# EAGLE library part SAMACSYS_PARTS_MD-80SGK (library PCEMouse_rev_D)
Circular DIN Connectors mini-DIN, 8P jack, rt, through hole, full shield Source: Datasheet <https://www.cui.com/product/resource/md-sgk-series.pdf>
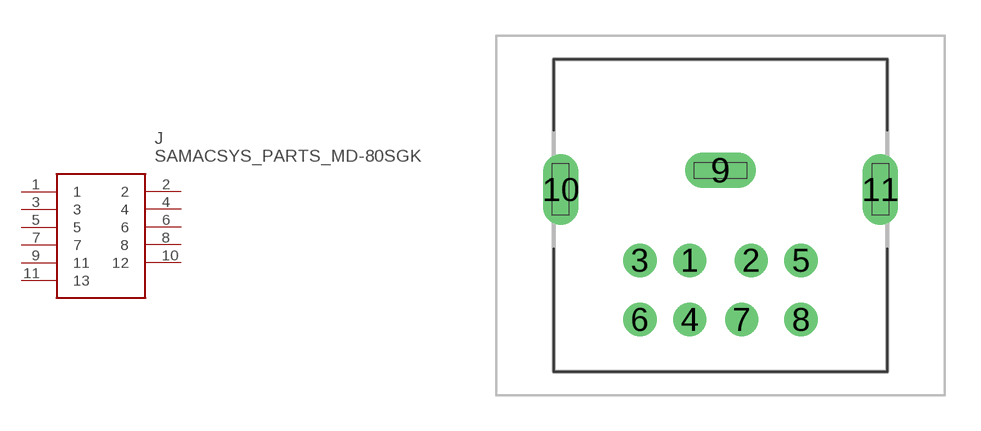
[diagram p2: symbol with the pads of SAMACSYS_PARTS_MD80SGK; footprint SAMACSYS_PARTS_MD80SGK]

Designator prefix J

## SAMACSYS_PARTS_MD-80SGK (DESCRIPTION: Circular DIN Connectors mini-DIN, 8P jack, rt, through hole, full shield; HEIGHT: 13mm; MANUFACTURER_NAME: CUI; MANUFACTURER_PART_NUMBER: MD-80SGK; MOUSER_PART_NUMBER: 490-MD-80SGK; MOUSER_PRICE-STOCK: https://www.mouser.com/Search/Refine.aspx?Keyword=490-MD-80SGK)  [SAMACSYS_PARTS_MD80SGK]
1  1
2  2
3  3
4  4
5  5
6  6
7  7
8  8
9  11
10  12
11  13

## Footprint SAMACSYS_PARTS_MD80SGK (pad centres in mm)
MD-80SGK
drill 0.9 pad 1.4: 1 -1.3,-1.9; 2 1.3,-1.9; 3 -3.4,-1.9; 4 -1.3,-4.4; 5 3.4,-1.9; 6 -3.4,-4.4; 7 0.9,-4.4; 8 3.4,-4.4
drill 0.7 pad 1.5 long: 9 0,1.9; 10 -6.75,1.1; 11 6.75,1.1